# Altium footprint library 二极管.PcbLib: 25 footprints (part 1 of 2)
Each footprint in its own frame and in the unit in brackets; x right, y up, seen from the top. Pads: shape width x height; smd on the part's side, far side on the other; paste and mask are expansions set on the pad; w line width, h text height; cw(c..) or ccw(c..) is an arc to the next point about the centre after c.
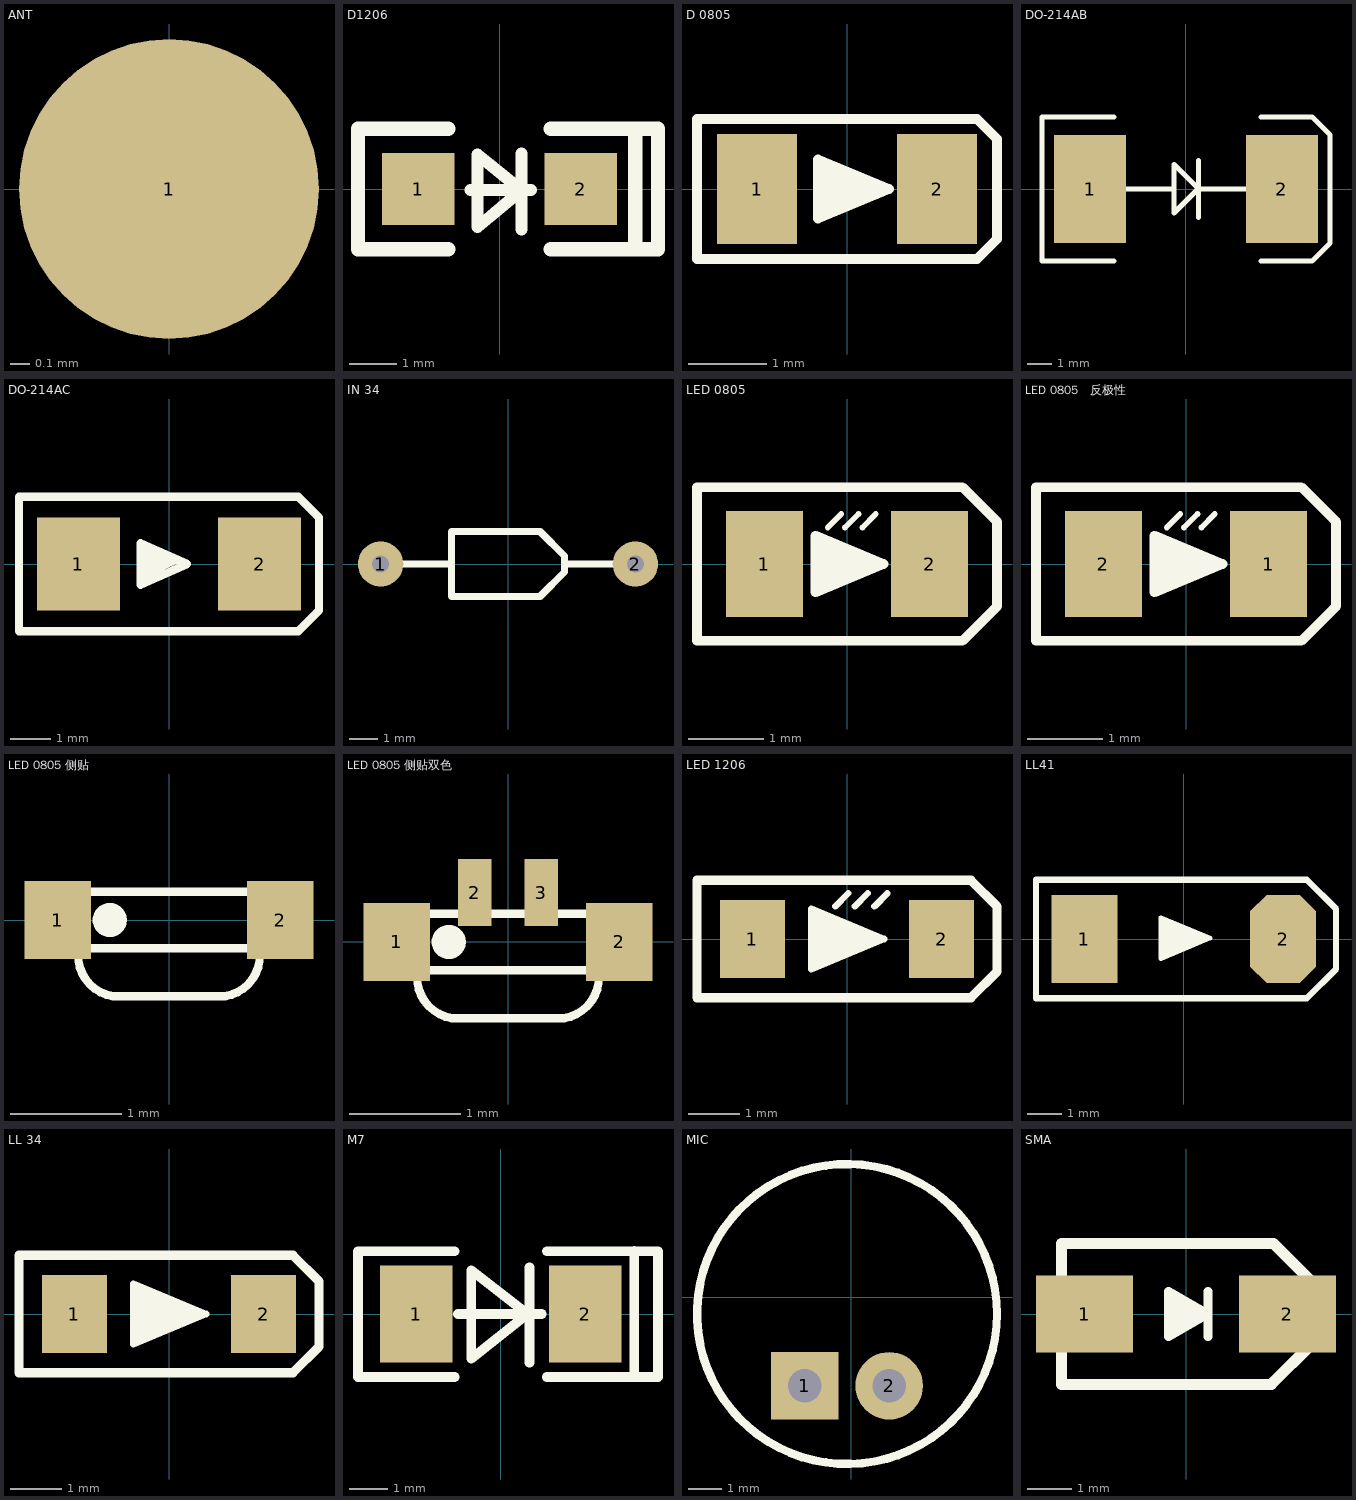
[diagram p0: the footprints below, top view; thin cyan lines are the x and y axes]

## ANT [mil] "弹簧天线"
pads (1):
  round 60 smd: 1(0,0)

## D1206 [mil]
pads (2):
  rect 60x60 smd: 1(-67.5,0) 2(67.5,0)
Top Overlay:
  lines w10: -24.04,-1 26.15,-1 ; 18.28,-33.48 18.28,29.51 ; 117.5,50 131.5,50 131.5,36 131.5,-44 ; -18.14,-31.51 -18.14,28.53 18.28,-1 -18.14,-31.51
  lines w12: -42.5,-50 -117.5,-50 -117.5,50 -42.5,50 ; 42.5,-50 117.5,-50 ; 42.5,50 117.5,50 ; 111.5,-50 131.5,-50 131.5,50 111.5,50 ; 112.5,-50 112.5,50
3D body: height 33.46, standoff 0, extent -65.95,-34.05 65.95,34.05

## D 0805 [mil]
pads (2):
  rect 40x55 smd: 1(-45,0) 2(45,0)
Top Overlay:
  lines w5: -11.1,12 -11.1,-11 12.9,0 -9.1,9 ; -10.1,5 4.9,-0.93 -9.1,-1 ; -8.1,8.59 -8.1,-7 6.9,0 ; -75,-35 -75,35 65,35 75,25 75,-25 65,-35 -75,-35 ; -14.59,-14.79 20.9,0 -14.59,14.79 -14.59,-14.79
3D body: height 29.92, standoff 0, extent -44.28,-26.58 46.28,26.58

## DO-214AB [mm] "这是贴片二极管  3A"
pads (2):
  rect 3x4.5 smd: 1(-4,0) 2(4,0)
Top Overlay:
  lines w0.2: -3,-3 -6,-3 -6,3 -3,3 ; -2.5,0 -0.5,0 ; 0.525,-1.2 0.525,1.2 ; 2.5,0 0.5,0 ; 3.111,-3 5.255,-3 6,-2.255 6,2.255 5.255,3 3.111,3 ; 0.5,0 -0.5,-1 -0.5,1.025 0.525,0 0.5,0
3D body: height 2.4, standoff -0.05, extent -4.154,-2.95 3.646,2.95

## DO-214AC [mil] "这是贴片二极管 1A"
pads (2):
  rect 80x90 smd: 1(-87.5,0) 2(87.5,0)
Top Overlay:
  lines w8: -22.5,0 -7.5,0 -22.5,5 ; -22.5,10 7.5,4.44 -22.5,-10 -22.5,15 ; -145,-65 -145,65 125,65 145,45 145,-45 125,-65 -145,-65 ; -27.5,-20 -27.5,20 17.5,0 -27.5,-20
3D body: height 84.69, standoff -1.97, extent -98.43,-53.16 98.43,53.14

## IN 34 [mm]
pads (2):
  round 1.6 hole 0.6: 1(-4.5,0) 2(4.5,0)
Top Overlay:
  lines w0.254: -3.683,0 -2,0 ; 2,0 3.683,0 ; -2,-1.143 -2,1.143 1.143,1.143 2,0.286 2,-0.286 1.143,-1.143 -2,-1.143

## LED 0805 [mil] "普通亮度，高亮绿灯用"
pads (2):
  rect 40x55 smd: 1(-43,0) 2(43,0)
Top Overlay:
  lines w3: -10,19 -3,26 ; -1,19 6,26 ; 8,19 15,26
  lines w5: -13,12 -13,-11 11,0 -11,9 -10,8.59 -10,-7 5,0 ; -12,5 3,-0.93 -11,-1 ; -78,-40 60,-40 78,-22 78,22 60,40 -78,40 -78,-40 ; -16.49,-14.79 -16.49,14.79 19,0 -16.49,-14.79
3D body: height 31.69, standoff 12.01, extent -29.48,-24.64 29.49,24.65
3D body: height 26.33, standoff -0.16, extent -39.37,-24.64 39.37,24.65

## LED 0805   反极性 [mil] "极性相反；高亮红，高亮黄专用"
pads (2):
  rect 40x55 smd: 1(43,0) 2(-43,0)
Top Overlay:
  lines w3: -10,19 -3,26 ; -1,19 6,26 ; 8,19 15,26
  lines w5: -13,12 -13,-11 11,0 -11,9 -10,8.59 -10,-7 5,0 ; -12,5 3,-0.93 -11,-1 ; -78,-40 60,-40 78,-22 78,22 60,40 -78,40 -78,-40 ; -16.49,-14.79 -16.49,14.79 19,0 -16.49,-14.79
3D body: height 31.69, standoff 12.01, extent -29.48,-24.64 29.49,24.65
3D body: height 26.33, standoff -0.16, extent -39.37,-24.64 39.37,24.65

## LED 0805 侧贴 [mm]
pads (2):
  rect 0.6x0.7 smd: 1(-1,0) 2(1,0)
Top Overlay:
  circle w0.154: c-0.533,0 r0.076
  lines w0.076: -0.813,-0.254 ccw(c-0.445,-0.318) -0.508,-0.686 0.508,-0.686 ccw(c0.445,-0.318) 0.813,-0.254 ; -1.016,-0.254 1.016,-0.254 1.016,0.254 -1.016,0.254 -1.016,-0.254

## LED 0805 侧贴双色 [mm]
pads (4):
  rect 0.6x0.7 smd: 1(-1,0) 2(1,0)
  rect 0.3x0.6 smd: 2(-0.3,0.445) 3(0.3,0.445)
Top Overlay:
  circle w0.154: c-0.533,0 r0.076
  lines w0.076: -0.813,-0.254 ccw(c-0.445,-0.318) -0.508,-0.686 0.508,-0.686 ccw(c0.445,-0.318) 0.813,-0.254 ; -1.016,-0.254 -1.016,0.254 1.016,0.254 1.016,-0.254 -1.016,-0.254

## LED 1206 [mil]
pads (2):
  rect 50x60 smd: 1(-72.5,0) 2(72.5,0)
Top Overlay:
  region: -3.6,13 -27.5,13 -27.5,-14 -3.6,-14
  lines w5: -27.5,-14 -11.5,-13 -24.5,-18 ; -27.5,13 -11.5,14 -24.5,18 ; -9,25 1,35 ; -3.6,12 -3.6,-11 20.4,0 -1.6,9 -0.6,8.59 -0.6,-7 14.4,0 ; -2.6,5 12.4,-0.93 -1.6,-1 ; 6,25 16,35 ; 21,25 31,35 ; -27.5,-23.29 28.4,0 -27.5,23.29 -27.5,-23.29
  lines w7: -115,-45 95,-45 115,-25 115,25 95,45 -115,45 -115,-45
3D body: height 43.81, standoff -15.9, extent -62,-32 64,31
3D body: height 39.57, standoff 19.88, extent -44.32,-31.53 44.33,31.54
3D body: height 35.58, standoff -0.16, extent -63.03,-31.53 63.03,31.54

## LL41 [mm] "2.4*5.3mm(直径，脚距）"
height 2.54
pads (2):
  rect 1.9x2.54 smd: 1(-2.85,0)
  oct 1.9x2.54 smd: 2(2.85,0)
Top Overlay:
  region: -0.051,0.356 -0.658,0.356 -0.658,-0.33 -0.051,-0.33
  lines w0.127: -0.658,-0.33 -0.251,-0.305 -0.582,-0.432 ; -0.658,0.356 -0.251,0.381 -0.582,0.483 ; -0.051,0.33 -0.051,-0.254 0.559,0.025 0,0.254 0.025,0.244 0.025,-0.152 0.406,0.025 ; -0.025,0.152 0.356,0.002 0,0 ; -0.658,-0.566 -0.658,0.617 0.762,0.025 -0.658,-0.566
  lines w0.178: -4.242,-1.702 -4.242,1.702 3.531,1.702 4.369,0.864 4.369,-0.864 3.531,-1.702 -4.242,-1.702
3D body: height 2.4, standoff 0, extent -2.651,-1.2 2.651,1.2

## LL 34 [mil]
pads (2):
  rect 50x60 smd: 1(-72.5,0) 2(72.5,0)
Top Overlay:
  region: -3.6,13 -27.5,13 -27.5,-14 -3.6,-14
  lines w5: -27.5,-14 -11.5,-13 -24.5,-18 ; -27.5,13 -11.5,14 -24.5,18 ; -3.6,12 -3.6,-11 20.4,0 -1.6,9 -0.6,8.59 -0.6,-7 14.4,0 ; -2.6,5 12.4,-0.93 -1.6,-1 ; -27.5,-23.29 28.4,0 -27.5,23.29 -27.5,-23.29
  lines w7: -115,-45 95,-45 115,-25 115,25 95,45 -115,45 -115,-45
3D body: height 59.53, standoff 0.47, extent -68.9,-29.53 68.89,29.53

## M7 [mil]
pads (2):
  rect 75x100 smd: 1(-87.5,0) 2(87.5,0)
Top Overlay:
  lines w10: -47.5,-65 -147.5,-65 -147.5,65 -47.5,65 ; -44.19,0 42.42,0 ; 29.63,-50.2 29.63,48.23 ; 47.5,-65 147.5,-65 162.5,-65 162.5,65 147.5,65 47.5,65 ; 137.89,-64.96 137.89,65.04 ; -30.41,-46.26 27.66,0 -30.41,45.28 -30.41,-46.26
3D body: height 89.55, standoff -1.39, extent -98.43,-53.16 98.42,53.14

## MIC [mil] "咪头"
pads (2):
  rect 80x80 hole 40: 1(-55,-105)
  round 80 hole 40: 2(45,-105)
Top Overlay:
  circle w10: c-5,-20 r177.55

## SMA [mm] "4.5x2.6*2.2mm（长宽高，不包括引脚）"
height 2.54
pads (2):
  rect 2.2x1.75 smd: 1(-2.3,0) 2(2.3,0)
Top Overlay:
  lines w0.203: 0.494,-0.508 0.494,0.508 ; -0.395,-0.508 0.494,0 -0.395,0.508 -0.395,-0.508
  lines w0.254: -0.33,0.305 0.305,0 -0.254,-0.305 -0.254,0.051 0.023,0 ; -2.819,-1.6 1.93,-1.6 2.845,-0.686 2.845,0.737 1.981,1.6 -2.819,1.6 -2.819,-1.6
3D body: height 2.15, standoff 0.04, extent -2.528,-1.3 2.575,1.3